# EAGLE library part BM83SM1 (library ICs)
BM83 Bluetooth Module
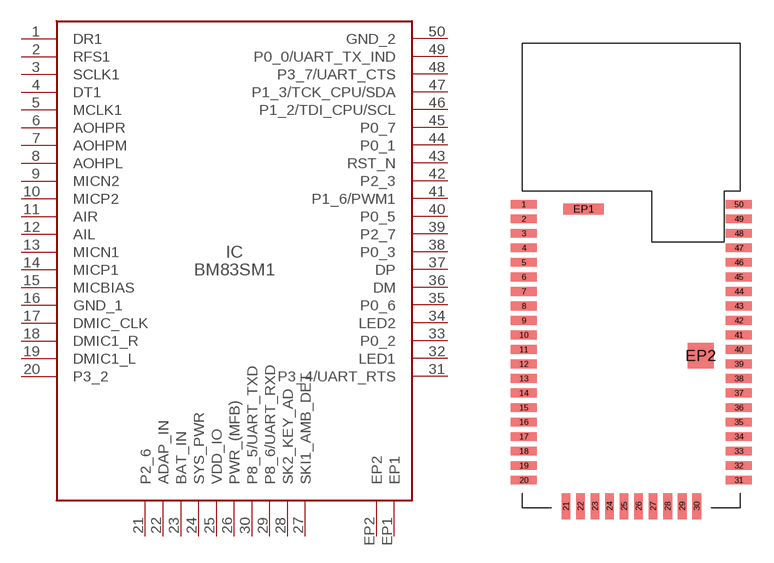
[diagram p0: symbol with the pads of BM83SM1; footprint BM83SM1]

Designator prefix IC

## BM83SM1 (HEIGHT: 2.5mm; MFG: Microchip; PN: BM83SM1; VALUE: BM83SM1)  [BM83SM1]
1  DR1
2  RFS1
3  SCLK1
4  DT1
5  MCLK1
6  AOHPR
7  AOHPM
8  AOHPL
9  MICN2
10  MICP2
11  AIR
12  AIL
13  MICN1
14  MICP1
15  MICBIAS
16  GND_1
17  DMIC_CLK
18  DMIC1_R
19  DMIC1_L
20  P3_2
21  P2_6
22  ADAP_IN
23  BAT_IN
24  SYS_PWR
25  VDD_IO
26  PWR_(MFB)
27  SKI1_AMB_DET
28  SK2_KEY_AD
29  P8_6/UART_RXD
30  P8_5/UART_TXD
31  P3_4/UART_RTS
32  LED1
33  P0_2
34  LED2
35  P0_6
36  DM
37  DP
38  P0_3
39  P2_7
40  P0_5
41  P1_6/PWM1
42  P2_3
43  RST_N
44  P0_1
45  P0_7
46  P1_2/TDI_CPU/SCL
47  P1_3/TCK_CPU/SDA
48  P3_7/UART_CTS
49  P0_0/UART_TX_IND
50  GND_2
EP1  EP1
EP2  EP2

## Footprint BM83SM1 (pad centres in mm)
BM83SM1
smd 1.8 x 0.6: 1 0.1,20.9; 2 0.1,19.9; 3 0.1,18.9; 4 0.1,17.9; 5 0.1,16.9; 6 0.1,15.9; 7 0.1,14.9; 8 0.1,13.9; 9 0.1,12.9; 10 0.1,11.9; 11 0.1,10.9; 12 0.1,9.9; 13 0.1,8.9; 14 0.1,7.9; 15 0.1,6.9; 16 0.1,5.9; 17 0.1,4.9; 18 0.1,3.9; 19 0.1,2.9; 20 0.1,1.9; 31 14.9,1.9; 32 14.9,2.9; 33 14.9,3.9; 34 14.9,4.9; 35 14.9,5.9; 36 14.9,6.9; 37 14.9,7.9; 38 14.9,8.9; 39 14.9,9.9; 40 14.9,10.9; 41 14.9,11.9; 42 14.9,12.9; 43 14.9,13.9; 44 14.9,14.9; 45 14.9,15.9; 46 14.9,16.9; 47 14.9,17.9; 48 14.9,18.9; 49 14.9,19.9; 50 14.9,20.9
smd 0.6 x 1.8: 21 3,0.1; 22 4,0.1; 23 5,0.1; 24 6,0.1; 25 7,0.1; 26 8,0.1; 27 9,0.1; 28 10,0.1; 29 11,0.1; 30 12,0.1
smd 2.79 x 0.76: EP1 4.21,20.58
smd 1.78 x 1.78: EP2 12.27,10.47